# EAGLE library part RASPBERRPI (library Pygmy)
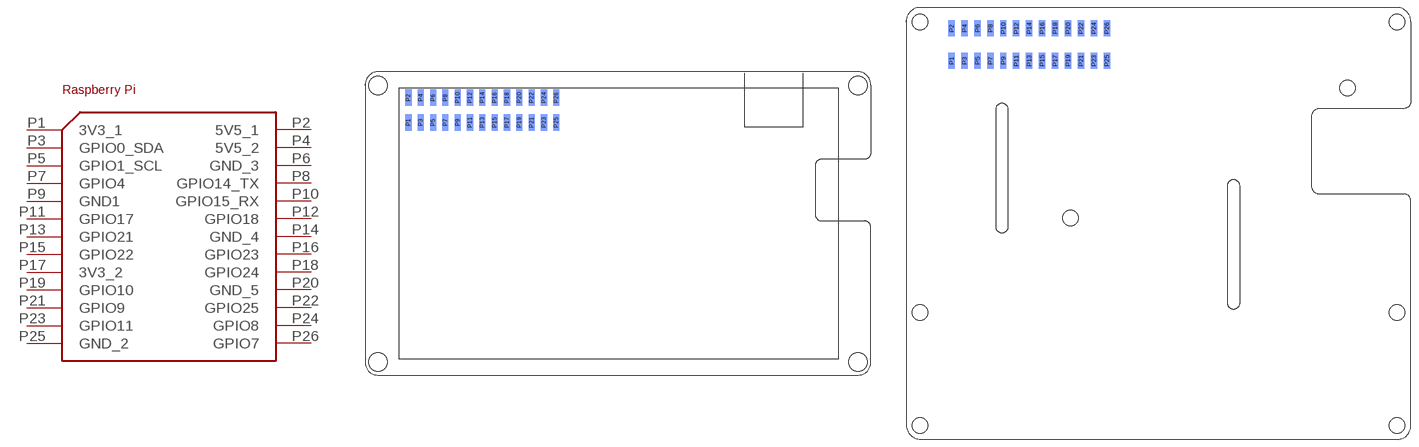
[diagram p78: symbol with the pads of RASPBERRYPI; footprints RASPBERRYPI, RASPBERRYPI_EXTENDED]

Designator prefix -

## RASPBERRPIBASIC  [RASPBERRYPI]
P1  3V3_1
P2  5V5_1
P3  GPIO0_SDA
P4  5V5_2
P5  GPIO1_SCL
P6  GND_3
P7  GPIO4
P8  GPIO14_TX
P9  GND1
P10  GPIO15_RX
P11  GPIO17
P12  GPIO18
P13  GPIO21
P14  GND_4
P15  GPIO22
P16  GPIO23
P17  3V3_2
P18  GPIO24
P19  GPIO10
P20  GND_5
P21  GPIO9
P22  GPIO25
P23  GPIO11
P24  GPIO8
P25  GND_2
P26  GPIO7

## RASPBERRPIEXTENDED  [RASPBERRYPI_EXTENDED]
Pads as for RASPBERRYPI

## Footprint RASPBERRYPI (pad centres in mm)
smd 1.27 x 3.429 bottom: P1 8.89,52.07; P2 8.89,57.15; P3 11.43,52.07; P4 11.43,57.15; P5 13.97,52.07; P6 13.97,57.15; P7 16.51,52.07; P8 16.51,57.15; P9 19.05,52.07; P10 19.05,57.15; P11 21.59,52.07; P12 21.59,57.15; P13 24.13,52.07; P14 24.13,57.15; P15 26.67,52.07; P16 26.67,57.15; P17 29.21,52.07; P18 29.21,57.15; P19 31.75,52.07; P20 31.75,57.15; P21 34.29,52.07; P22 34.29,57.15; P23 36.83,52.07; P24 36.83,57.15; P25 39.37,52.07; P26 39.37,57.15
hole 3.81 at 2.667,2.667
hole 3.81 at 2.667,59.69
hole 3.81 at 101.473,59.69
hole 3.81 at 101.473,2.667

## Footprint RASPBERRYPI_EXTENDED (pad centres in mm)
smd 1.27 x 3.175 bottom: P1 8.89,52.07; P2 8.89,58.42; P3 11.43,52.07; P4 11.43,58.42; P5 13.97,52.07; P6 13.97,58.42; P7 16.51,52.07; P8 16.51,58.42; P9 19.05,52.07; P10 19.05,58.42; P11 21.59,52.07; P12 21.59,58.42; P13 24.13,52.07; P14 24.13,58.42; P15 26.67,52.07; P16 26.67,58.42; P17 29.21,52.07; P18 29.21,58.42; P19 31.75,52.07; P20 31.75,58.42; P21 34.29,52.07; P22 34.29,58.42; P23 36.83,52.07; P24 36.83,58.42; P25 39.37,52.07; P26 39.37,58.42
hole 3.048 at 2.667,2.667
hole 3.048 at 2.667,59.69
hole 3.048 at 96.393,59.69
hole 3.048 at 96.393,2.667
hole 3.048 at 96.393,-19.558
hole 3.048 at 2.667,-19.558
hole 3.048 at 32.258,21.209
hole 3.048 at 86.614,46.736